# EAGLE library part TPS62050 (library TPS62050-3v3-buck)
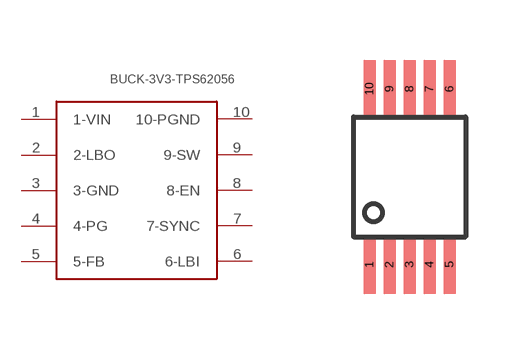
[diagram p0: symbol with the pads of TPS62056; footprint TPS62056]

Designator prefix BUCK-3V3-TPS62056

## TPS62050  [TPS62056]
1  1-VIN
2  2-LBO
3  3-GND
4  4-PG
5  5-FB
6  6-LBI
7  7-SYNC
8  8-EN
9  9-SW
10  10-PGND

## Footprint TPS62056 (pad centres in mm)
smd 0.3 x 1.45: 1 0,0; 2 0.5,0; 3 1,0; 4 1.5,0; 5 2,0; 6 2,4.4; 7 1.5,4.4; 8 1,4.4; 9 0.5,4.4; 10 0,4.4